# EAGLE library part MAX6956 (library interfaces)
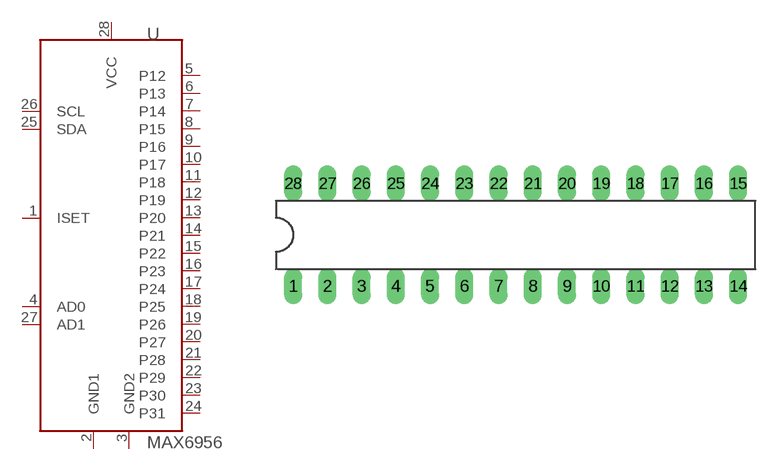
[diagram p8: symbol with the pads of DIP28; footprint DIP28]

Designator prefix -

## MAX6956  [DIP28]
1  ISET
2  GND1
3  GND2
4  AD0
5  P12
6  P13
7  P14
8  P15
9  P16
10  P17
11  P18
12  P19
13  P20
14  P21
15  P22
16  P23
17  P24
18  P25
19  P26
20  P27
21  P28
22  P29
23  P30
24  P31
25  SDA
26  SCL
27  AD1
28  VCC

## Footprint DIP28 (pad centres in mm)
Dual In Line package type P
drill 0.813 long: 1 -16.51,-3.81; 2 -13.97,-3.81; 3 -11.43,-3.81; 4 -8.89,-3.81; 5 -6.35,-3.81; 6 -3.81,-3.81; 7 -1.27,-3.81; 8 1.27,-3.81; 9 3.81,-3.81; 10 6.35,-3.81; 11 8.89,-3.81; 12 11.43,-3.81; 13 13.97,-3.81; 14 16.51,-3.81; 15 16.51,3.81; 16 13.97,3.81; 17 11.43,3.81; 18 8.89,3.81; 19 6.35,3.81; 20 3.81,3.81; 21 1.27,3.81; 22 -1.27,3.81; 23 -3.81,3.81; 24 -6.35,3.81; 25 -8.89,3.81; 26 -11.43,3.81; 27 -13.97,3.81; 28 -16.51,3.81